# Altium schematic symbol library Schlib1.SchLib: 1 symbol
Pins are listed as number, name and electrical type; pins without a type are passive.

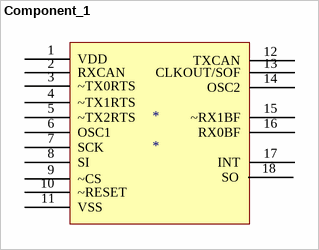
[diagram p0: symbol Component_1]

## Component_1
designator *
footprint MCP2515 (Footprint not found)
pins: 1 VDD, 2 RXCAN, 3 ~TX0RTS, 4 ~TX1RTS, 5 ~TX2RTS, 6 OSC1, 7 SCK, 8 SI, 9 ~CS, 10 ~RESET, 11 VSS, 12 TXCAN, 13 CLKOUT/SOF, 14 OSC2, 15 ~RX1BF, 16 RX0BF, 17 INT, 18 SO